# Altium schematic symbol library C455280.SchLib: 1 symbol
Pins are listed as number, name and electrical type; pins without a type are passive.

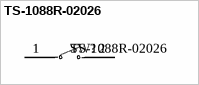
[diagram p0: symbol TS-1088R-02026]

## TS-1088R-02026
designator SW?
Tactile Switch SPST 2mm 3.9mm x 2.93mm Surface Mount; Name: C455280; Source: LCSC
footprint SW-SMD_L3.9-W3.0-P4.45 (Tactile Switch SPST 2mm 3.9mm x 2.93mm Surface Mount)
pins: 1, 2